# Altium footprint library PcbLib.PcbLib: 34 footprints (part 2 of 3)
Each footprint in its own frame and in the unit in brackets; x right, y up, seen from the top. Pads: shape width x height; smd on the part's side, far side on the other; paste and mask are expansions set on the pad; w line width, h text height; cw(c..) or ccw(c..) is an arc to the next point about the centre after c.
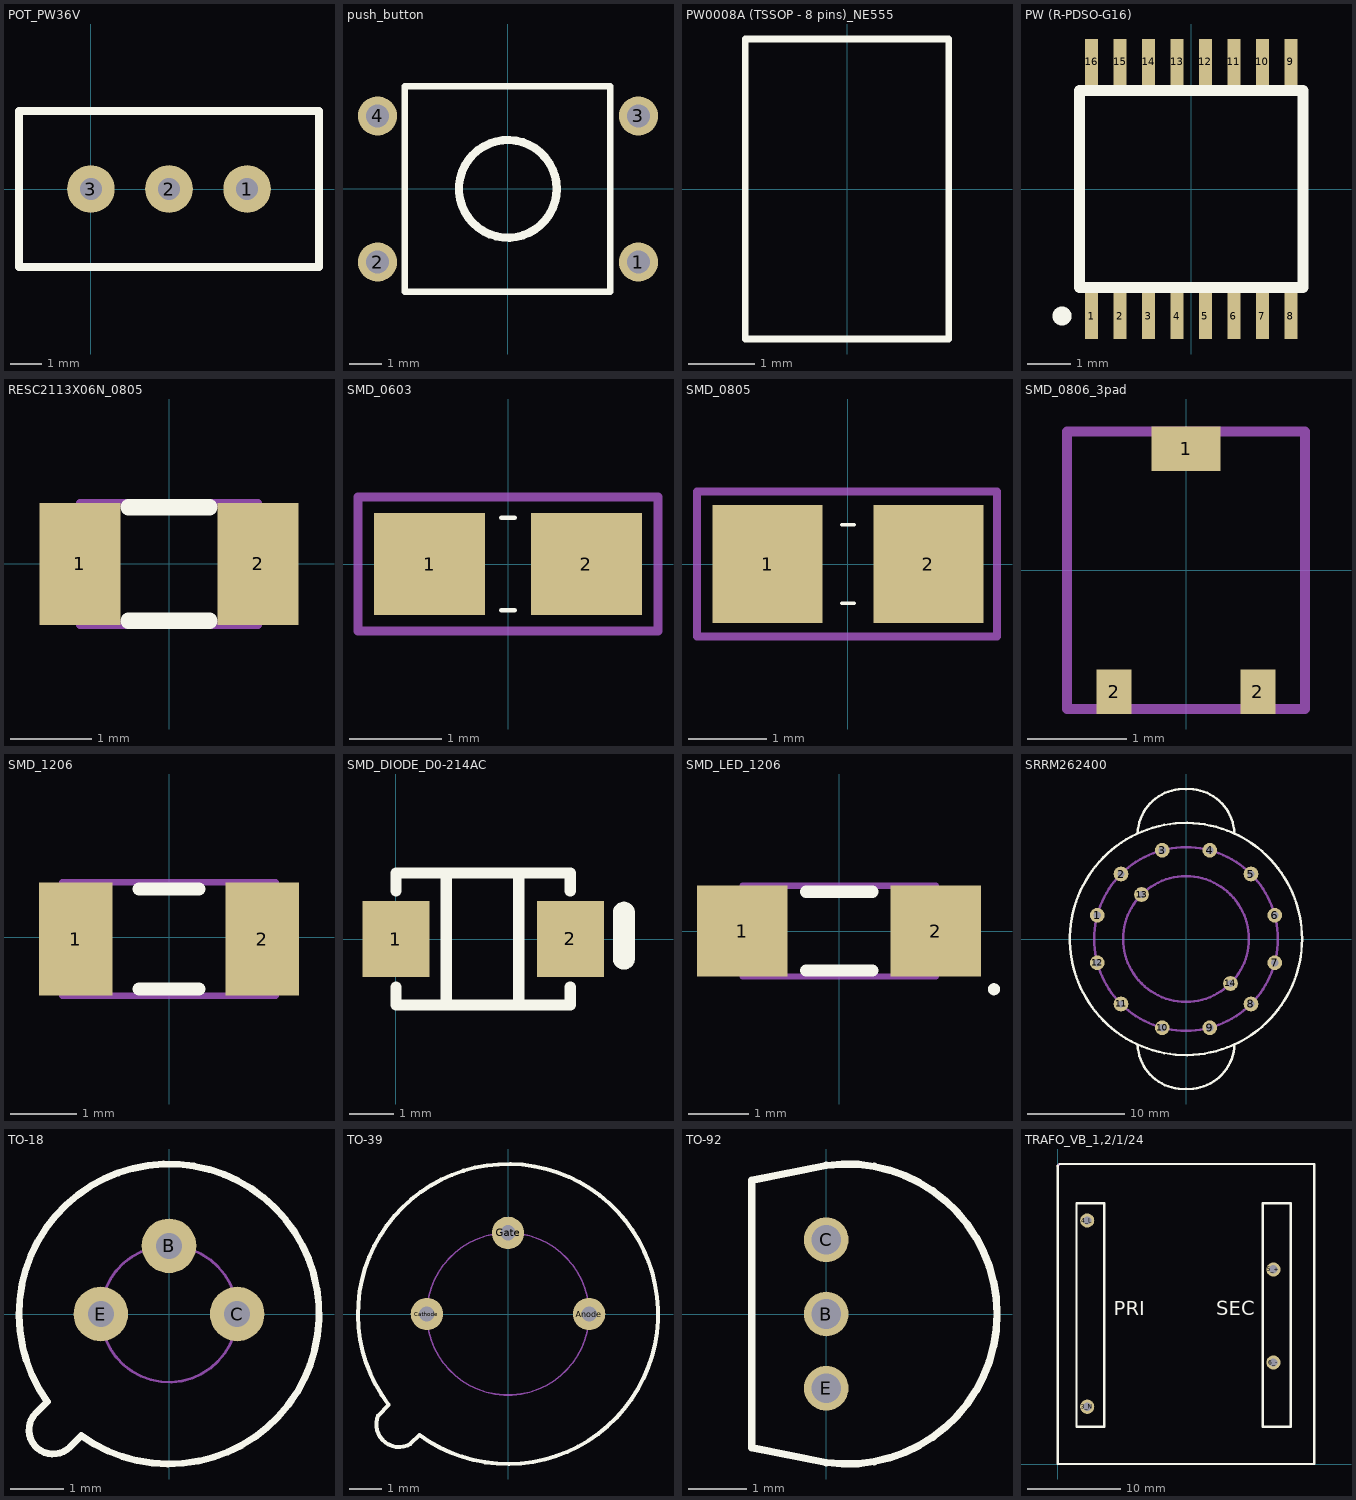
[diagram p1: the footprints below, top view; thin cyan lines are the x and y axes]

## POT_PW36V [mil]
pads (3):
  round 60 hole 27.56: 1(196.85,0) 2(98.43,0) 3(0,0)
Top Overlay:
  lines w10: -90.55,-98.43 287.4,-98.43 287.4,0 287.4,98.43 -90.55,98.43 -90.55,0 -90.55,-98.43

## push_button [mm]
pads (4):
  round 1.2 hole 0.7: 1(4.01,-2.25) 2(-4,-2.25) 3(4.01,2.24) 4(-4,2.24)
Top Overlay:
  circle w0.254: c0,0 r1.5
  lines w0.2: -3.16,-3.16 3.15,-3.16 3.15,3.15 -3.16,3.15 -3.16,-3.16
Mechanical 7:
  circle w0.1: c0,0 r1.5
3D body "Switch SPNO - DTSM-6.stp": height 4.5, standoff 0, extent -4.5,-3.1 4.5,3.1

## PW0008A (TSSOP - 8 pins)_NE555 [mil] "SOP, 8-Leads, Body 3,00x4,40mm, Pitch 0,65mm, IPC Medium Density"
height 104.33
Top Overlay:
  lines w3.94: -60.04,-88.58 -60.04,88.58 60.04,88.58 60.04,-88.58 -60.04,-88.58

## PW (R-PDSO-G16) [mm] "PW (R-PDSO-G16)"
pads (16):
  rect 0.3x1.05 smd: 1(-2.275,-2.9) 2(-1.625,-2.9) 3(-0.975,-2.9) 4(-0.325,-2.9) 5(0.325,-2.9) 6(0.975,-2.9) 7(1.625,-2.9) 8(2.275,-2.9) 9(2.275,2.9) 10(1.625,2.9) 11(0.975,2.9) 12(0.325,2.9) 13(-0.325,2.9) 14(-0.975,2.9) 15(-1.625,2.9) 16(-2.275,2.9)
Top Overlay:
  circle w0.254: c-2.95,-2.9 r0.09
  lines w0.254: -2.55,-2.25 -2.55,2.25 2.55,2.25 2.55,-2.25 -2.55,-2.25

## RESC2113X06N_0805 [mm] "Chip Resistor, 2-Leads, Body 2,10x1,35mm, IPC Medium Density"
height 0.6
pads (2):
  rect 1x1.5 smd: 1(-1.1,0) 2(1.1,0)
Top Overlay:
  lines w0.2: -0.5,-0.7 0.5,-0.7 ; -0.5,0.7 0.5,0.7
Mechanical 13:
  lines w0.1: -1.1,-0.75 1.1,-0.75 1.1,0.75 -1.1,0.75 -1.1,-0.75
3D body: height 0.6, standoff 0, extent 1,-0.75 1.1,0.75
3D body: height 0.6, standoff 0, extent -1.1,-0.75 -1,0.75
3D body: height 0.6, standoff 0, extent -1,-0.75 1,0.75

## SMD_0603 [mm]
pads (2):
  rect 1.2x1.1 smd: 1(-0.85,0) 2(0.85,0)
Top Overlay:
  lines w0.05: -0.075,-0.5 0.075,-0.5 ; -0.075,0.5 0.075,0.5
Mechanical 13:
  lines w0.1: -1.625,-0.725 1.625,-0.725 1.625,0.725 -1.625,0.725 -1.625,-0.725
3D body: height 0.65, standoff 0, extent 0.15,-0.675 1.575,0.7
3D body: height 0.65, standoff 0, extent -1.575,-0.675 -0.15,0.675
3D body: height 0.65, standoff 0, extent -0.825,-0.675 0.85,0.675

## SMD_0805 [mm]
pads (2):
  rect 1.4x1.5 smd: 1(-1.025,0) 2(1.025,0)
Top Overlay:
  lines w0.05: -0.075,-0.5 0.075,-0.5 ; -0.075,0.5 0.075,0.5
Mechanical 13:
  lines w0.1: -1.925,-0.925 -1.925,0.925 1.9,0.925 1.9,-0.925 -1.925,-0.925
3D body: height 0.65, standoff 0, extent -1.675,-0.875 1.75,0.875

## SMD_0806_3pad [mm] "ST2TA101TR-ND"
pads (3):
  rect 0.7x0.45 smd: 1(0,1.225)
  rect 0.35x0.45 smd: 2(-0.725,-1.225) 2(0.725,-1.225)
Mechanical 13:
  lines w0.1: -1.2,-1.4 -1.2,1.4 1.2,1.4 1.2,-1.4 -1.2,-1.4
3D body: height 0.65, standoff 0, extent -1.262,-1.45 1.25,1.45

## SMD_1206 [mm]
pads (2):
  rect 1.1x1.7 smd: 1(-1.4,-0.025) 2(1.4,-0.025)
Top Overlay:
  lines w0.2: -0.45,-0.775 0.45,-0.775 ; -0.45,0.725 0.45,0.725
Mechanical 13:
  lines w0.1: -1.6,-0.875 1.6,-0.875 1.6,0.825 -1.6,0.825 -1.6,-0.875
3D body: height 0.65, standoff 0, extent 1.15,-0.875 1.6,0.825
3D body: height 0.65, standoff 0, extent -1.6,-0.875 -1.15,0.825
3D body: height 0.65, standoff 0, extent -1.15,-0.875 1.15,0.825

## SMD_DIODE_D0-214AC [mm] "SMD_DIODE_D0-214AC"
pads (3):
  rect 1.5x1.7 smd: 1(0,0) 2(3.9,0)
  oval 0.5x1.524 on Top Overlay: ""(5.1,0.075)
Top Overlay:
  lines w0.254: 0,-1.075 0,-1.475 3.9,-1.475 3.9,-1.075 ; 0,1.075 0,1.475 3.9,1.475 3.9,1.075 ; 1.125,-1.45 1.125,1.35 ; 2.75,-1.45 2.75,0.75 2.75,1.45

## SMD_LED_1206 [mm] "SMD_LED_1206"
height 0.7
pads (2):
  rect 1.5x1.5 smd: 1(-1.6,0) 2(1.6,0)
Top Overlay:
  circle w0.1: c2.562,-0.962 r0.05
  lines w0.2: -0.55,-0.65 0.55,-0.65 ; -0.55,0.65 0.55,0.65
Mechanical 13:
  lines w0.1: -1.6,-0.75 1.6,-0.75 1.6,0.75 -1.6,0.75 -1.6,-0.75
3D body: height 0.7, standoff 0, extent 1,-0.75 1.6,0.75
3D body: height 0.7, standoff 0, extent -1.6,-0.75 -1,0.75
3D body: height 0.7, standoff 0, extent -1,-0.75 1,0.75

## SRRM262400 [mil] "6-Way Rotative Switch"
height 543.31
pads (14):
  round 60 hole 30: 1(-361.27,96.8) 2(-264.47,264.47) 3(-96.8,361.27) 4(96.8,361.27) 5(264.47,264.47) 6(361.27,96.8) 7(361.27,-96.8) 8(264.47,-264.47) 9(96.8,-361.27) 10(-96.8,-361.27) 11(-264.47,-264.47) 12(-361.27,-96.8) 13(-180.95,180.95) 14(180.95,-180.95)
Top Overlay:
  circle w10: c0,0 r472.44
  lines w10: -196.85,-433.07 ccw(c-9.84,-423.23) 0,-610.24 ccw(c9.84,-423.23) 197,-429.68 ; -196.85,433.07 cw(c-9.84,423.23) 0,610.24 cw(c9.84,423.23) 196.85,433.07
Mechanical 1:
  lines w10: -374.02,0 ccw(c0,0) -361.27,-96.8 ccw(c0,0) -323.91,-187.01 ccw(c0,0) -264.47,-264.47 ccw(c0,0) -187.01,-323.91 ccw(c0,0) -96.8,-361.27 ccw(c0,0) 0,-374.02 ccw(c0,0) 96.8,-361.27 ccw(c0,0) 187.01,-323.91 ccw(c0,0) 264.47,-264.47 ccw(c0,0) 323.91,-187.01 ccw(c0,0) 361.27,-96.8 ccw(c0,0) 374.02,0 ccw(c0,0) 361.27,96.8 ccw(c0,0) 323.91,187.01 ccw(c0,0) 264.47,264.47 ccw(c0,0) 187.01,323.91 ccw(c0,0) 96.8,361.27 ccw(c0,0) 0,374.02 ccw(c0,0) -96.8,361.27 ccw(c0,0) -187.01,323.91 ccw(c0,0) -264.47,264.47 ccw(c0,0) -323.91,187.01 ccw(c0,0) -361.27,96.8 ccw(c0,0) -374.02,0 ; -255.91,0 cw(c0,0) -247.19,66.23 cw(c0,0) -221.62,127.95 cw(c0,0) -180.95,180.95 cw(c0,0) -127.95,221.62 cw(c0,0) -66.23,247.19 cw(c0,0) 0,255.91 cw(c0,0) 66.23,247.19 cw(c0,0) 127.95,221.62 cw(c0,0) 180.95,180.95 cw(c0,0) 221.62,127.95 cw(c0,0) 247.19,66.23 cw(c0,0) 255.91,0 cw(c0,0) 247.19,-66.23 cw(c0,0) 221.62,-127.95 cw(c0,0) 180.95,-180.95 cw(c0,0) 127.95,-221.62 cw(c0,0) 66.23,-247.19 cw(c0,0) 0,-255.91 cw(c0,0) -66.23,-247.19 cw(c0,0) -127.95,-221.62 cw(c0,0) -180.95,-180.95 cw(c0,0) -221.62,-127.95 cw(c0,0) -247.19,-66.23 cw(c0,0) -255.91,0
3D body "SRRM262400.STEP": height 1405.51, standoff -125.98, extent -490.16,-611 490.16,609.47

## TO-18 [mil] "3 leads TO-18 metal can package"
pads (3):
  round 40 hole 19: B(0,50) C(50,0) E(-50,0)
Top Overlay:
  lines w5: -64.4,-89.4 -64.4,-89.17 ; -64.4,-89.4 -64.4,-89.17 ; -64.4,-89.4 -72.5,-97.5 cw(c-85,-85) -97.5,-72.5 -89.4,-64.4 -89.17,-64.4 cw(c0,0) -64.4,-89.17
Mechanical 1:
  circle w2: c0,0 r50

## TO-39 [mil] "3 Lead TO-39 Metal Can Package"
pads (3):
  round 40 hole 19: Anode(100,0) Cathode(-100,0) Gate(0,100)
Top Overlay:
  lines w5: -160,-125 ccw(c-134.45,-136.16) -120,-160 -109.4,-149.4 -109.4,-149.18 ccw(c0,0) -147.39,-111.81 -147.39,-112.39 -160,-125
Mechanical 1:
  circle w2: c0,0 r100

## TO-92 [mil] "3 Leads TO-92"
pads (3):
  round 30 hole 20: B(0,0) C(0,50) E(0,-50)
Top Overlay:
  lines w5: -50,-90 0,-100 ccw(c14.02,0) 0,100 -50,90 -50,-90

## TRAFO_VB_1,2/1/24 [mm] "TRAFO_VB_1,2/1/24"
pads (4):
  round 1.524 hole 0.9: 3_N(3.15,6.15) 4_L(3.15,26.15) 5_+(23.15,20.9) 6_-(23.15,10.9)
Top Overlay:
  lines w0.254: 0,32.05 0,0 27.525,0 27.525,32.225 0.175,32.225 ; 2,4 5,4 5,28 2,28 2,4 ; 22,4 25,4 25,28 22,28 22,4
  text "PRI" at 6,16 h1.52
  text "SEC" at 17,16 h1.52
Mechanical 1:
  lines w0.254: 0,32.05 0.044,32.094 ; 0.175,32.225 0.131,32.181 0.044,32.094 ; 0.044,32.094 0.044,32.094